# Altium footprint library TO229P990X238-4N.PcbLib: 1 footprints
Each footprint in its own frame and in the unit in brackets; x right, y up, seen from the top. Pads: shape width x height; smd on the part's side, far side on the other; paste and mask are expansions set on the pad; w line width, h text height; cw(c..) or ccw(c..) is an arc to the next point about the centre after c.
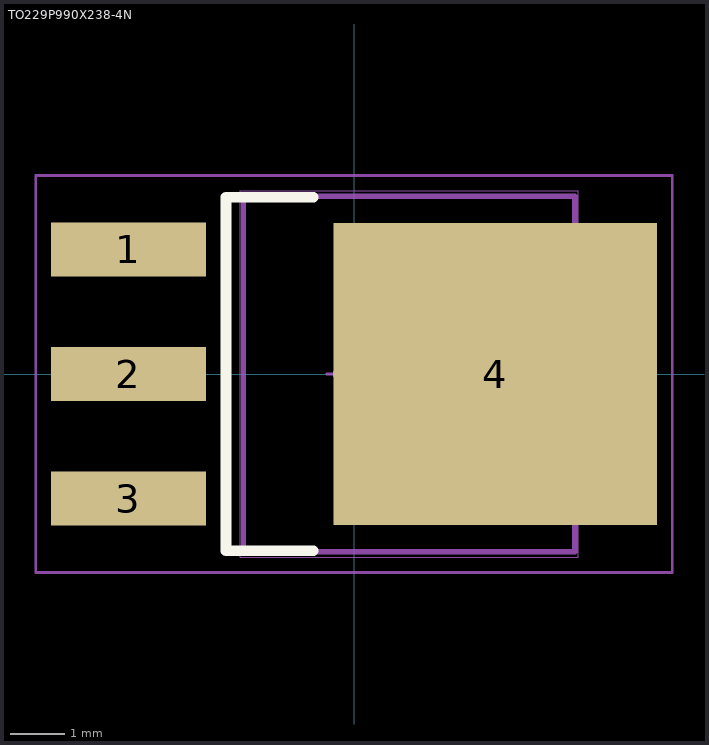
[diagram p0: the footprint, top view; thin cyan lines are the x and y axes]

## TO229P990X238-4N [mm]
pads (4):
  rect 2.85x1 smd: 1(-4.15,2.29) 2(-4.15,0) 3(-4.15,-2.29)
  rect 5.95x5.55 smd: 4(2.6,0)
Top Overlay:
  circle w0.05: c0,0 r0.35
  lines w0.2: -0.75,-3.25 -2.35,-3.25 -2.35,3.25 -0.75,3.25
Assembly Top:
  lines w0.001: -2.095,-3.365 4.125,-3.365 4.125,3.365 -2.095,3.365 -2.095,-3.365
  lines w0.05: -0.5,0 0.5,0 ; 0,-0.5 0,0.5 ; -5.85,-3.65 5.85,-3.65 5.85,3.65 -5.85,3.65 -5.85,-3.65
  lines w0.1: 4.062,-2.508 4.356,-2.508 4.952,-1.846 4.952,1.847 4.356,2.508 4.062,2.508 ; -2.032,-3.27 4.062,-3.27 4.062,3.27 -2.032,3.27 -2.032,-3.27
3D body "step_temp.STEP": height 2.39, standoff 0, extent -4.953,-3.25 4.953,3.25